# EAGLE library part MICROSD-SOCKET (library pie)
μSD socket Socket for a MicroSD/TransFlash card
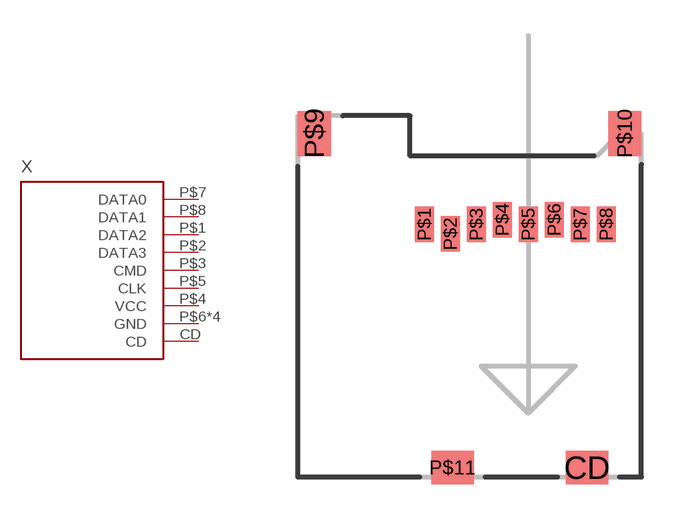
[diagram p21: symbol with the pads of MICROSD-SOCKET; footprint MICROSD-SOCKET]

Designator prefix X

## MICROSD-SOCKETAMPHENOL (PIE-INT-REF-NUM: uSD)  [MICROSD-SOCKET]
CD  CD
P$1  DATA2
P$2  DATA3
P$3  CMD
P$4  VCC
P$5  CLK
P$6  GND
P$7  DATA0
P$8  DATA1
P$9  GND
P$10  GND
P$11  GND

## Footprint MICROSD-SOCKET (pad centres in mm)
μSD socket Footprint designed for Amphenol 101-00660-68-6
smd 1.8 x 1.4: CD 2.49,-10.3; P$11 -3.21,-10.3
smd 0.8 x 1.5: P$1 -4.4,0; P$2 -3.3,-0.4; P$3 -2.2,0; P$4 -1.1,0.2; P$5 0,0; P$6 1.1,0.2; P$7 2.2,0; P$8 3.3,0
smd 1.4 x 1.9: P$9 -9.06,3.85; P$10 4.09,3.85